# EAGLE library part 613010243121 (library Wuerth_Elektronik_eiCan_Pin_&_Socked_Headers_v1.3)
WR-PHD Angled Dual Socket Header, 10 Pins
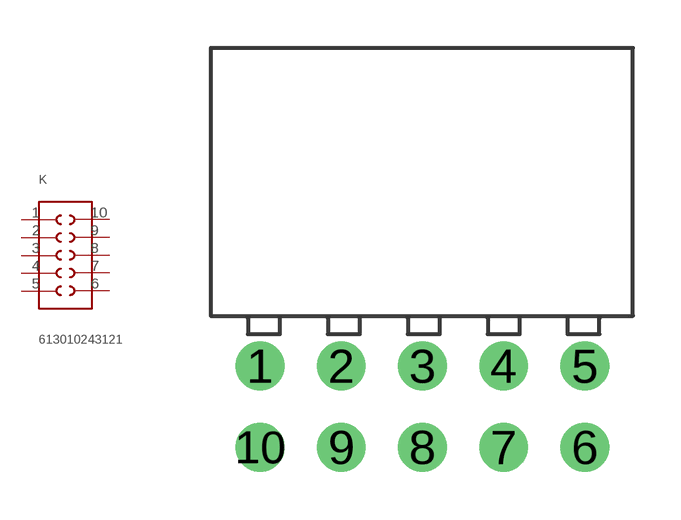
[diagram p168: symbol with the pads of 613010243121; footprint 613010243121]

Designator prefix K

## 613010243121  [613010243121]
1  1  pas
2  2  pas
3  3  pas
4  4  pas
5  5  pas
6  6  pas
7  7  pas
8  8  pas
9  9  pas
10  10  pas

## Footprint 613010243121 (pad centres in mm)
WR-PHD Angled Dual Socket Header, 10 Pins
drill 1.02 round: 1 -7.62,0; 2 -5.08,0; 3 -2.54,0; 4 0,0; 5 2.54,0; 6 2.54,-2.54; 7 0,-2.54; 8 -2.54,-2.54; 9 -5.08,-2.54; 10 -7.62,-2.54